# Altium footprint library индикаторные эл-ты.PcbLib: 12 footprints
Each footprint in its own frame and in the unit in brackets; x right, y up, seen from the top. Pads: shape width x height; smd on the part's side, far side on the other; paste and mask are expansions set on the pad; w line width, h text height; cw(c..) or ccw(c..) is an arc to the next point about the centre after c.
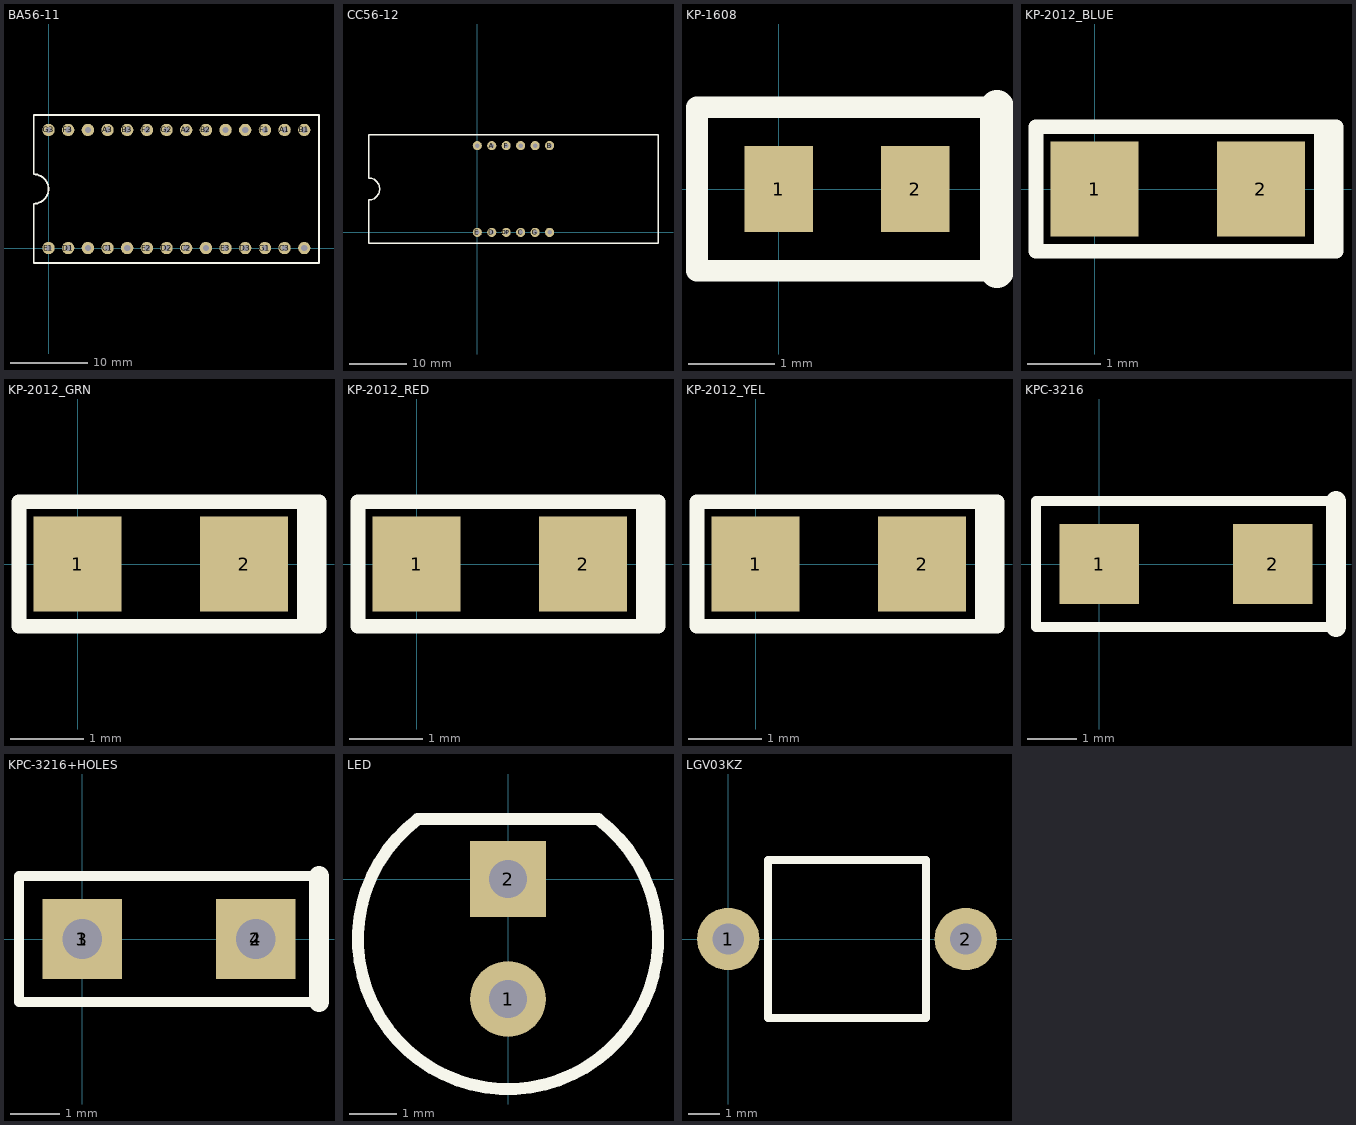
[diagram p0: the footprints below, top view; thin cyan lines are the x and y axes]

## BA56-11 [mm]
pads (28):
  round 1.6 hole 0.8: A1(30.48,15.24) A2(17.78,15.24) A3(7.62,15.24) B1(33.02,15.24) B2(20.32,15.24) B3(10.16,15.24) C1(7.62,0) C2(17.78,0) C3(30.48,0) D1(2.54,0) D2(15.24,0) D3(25.4,0) DP1(10.16,0) DP2(20.32,0) DP3(33.02,0) E1(0,0) E2(12.7,0) E3(22.86,0) F1(27.94,15.24) F2(12.7,15.24) F3(2.54,15.24) G1(27.94,0) G2(15.24,15.24) G3(0,15.24) OA1(5.08,0) OA1.(5.08,15.24) OA2(22.86,15.24) OA3(25.4,15.24)
Top Overlay:
  lines w0.254: -1.905,-1.905 -1.905,5.715 ccw(c-1.905,7.62) -1.905,9.525 -1.905,17.145 34.925,17.145 34.925,-1.905 -1.905,-1.905

## CC56-12 [mm]
pads (12):
  round 1.6 hole 0.8: A(2.54,15.24) B(12.7,15.24) C(7.62,0) D(2.54,0) DP(5.08,0) E(0,0) F(5.08,15.24) G(10.16,0) OK1(0,15.24) OK2(7.62,15.24) OK3(10.16,15.24) OK4(12.7,0)
Top Overlay:
  lines w0.254: -19.05,-1.905 31.75,-1.905 31.75,17.145 -19.05,17.145 -19.05,9.525 cw(c-19.05,7.62) -19.05,5.715 -19.05,-1.905

## KP-1608 [mm]
pads (2):
  rect 0.8x1 smd: 1(0,0) 2(1.587,0)
Top Overlay:
  lines w0.254: 2.54,-0.953 -0.953,-0.953 -0.953,0.953 2.54,0.953
  lines w0.4: 2.54,-0.953 2.54,0.953

## KP-2012_BLUE [mm] "Светодиод 0805 Синий"
pads (2):
  rect 1.2x1.3 smd mask+0.025: 1(0,0) 2(2.275,0)
Top Overlay:
  lines w0.2: 3.1,-0.85 3.1,0.85 ; -0.8,-0.85 3.3,-0.85 3.3,0.85 -0.8,0.85 -0.8,-0.85
3D body "everlight-17-21-0805LED-BLUE.SLDPRT": height 1.1, standoff -0.01, extent 0.15,-0.625 2.15,0.625

## KP-2012_GRN [mm] "Светодиод 0805 Зелёный"
pads (2):
  rect 1.2x1.3 smd mask+0.025: 1(0,0) 2(2.275,0)
Top Overlay:
  lines w0.2: 3.1,-0.85 3.1,0.85 ; -0.8,-0.85 3.3,-0.85 3.3,0.85 -0.8,0.85 -0.8,-0.85
3D body "everlight-17-21-0805LED-GREEN.SLDPRT": height 1.1, standoff -0.01, extent 0.15,-0.625 2.15,0.625

## KP-2012_RED [mm] "Светодиод 0805 Красный"
pads (2):
  rect 1.2x1.3 smd mask+0.025: 1(0,0) 2(2.275,0)
Top Overlay:
  lines w0.2: 3.1,-0.85 3.1,0.85 ; -0.8,-0.85 3.3,-0.85 3.3,0.85 -0.8,0.85 -0.8,-0.85
3D body "everlight-17-21-0805LED-red.SLDPRT": height 1.1, standoff -0.01, extent 0.15,-0.625 2.15,0.625

## KP-2012_YEL [mm] "Светодиод 0805 Жёлтый"
pads (2):
  rect 1.2x1.3 smd mask+0.025: 1(0,0) 2(2.275,0)
Top Overlay:
  lines w0.2: 3.1,-0.85 3.1,0.85 ; -0.8,-0.85 3.3,-0.85 3.3,0.85 -0.8,0.85 -0.8,-0.85
3D body "everlight-17-21-0805LED-YELLOW.SLDPRT": height 1.1, standoff -0.01, extent 0.15,-0.625 2.15,0.625

## KPC-3216 [mm]
pads (2):
  rect 1.6x1.6 smd: 1(0,0) 2(3.492,0)
Top Overlay:
  lines w0.2: 4.763,-1.27 -1.27,-1.27 -1.27,1.27 4.763,1.27
  lines w0.4: 4.763,-1.27 4.763,1.27

## KPC-3216+HOLES [mm]
pads (4):
  rect 1.6x1.6 smd: 1(0,0) 2(3.492,0)
  round 1.6 hole 0.8: 3(0,0) 4(3.492,0)
Top Overlay:
  lines w0.2: 4.763,-1.27 -1.27,-1.27 -1.27,1.27 4.763,1.27
  lines w0.4: 4.763,-1.27 4.763,1.27

## LED [mm]
pads (2):
  round 1.6 hole 0.8: 1(0,-2.54)
  rect 1.6x1.6 hole 0.8: 2(0,0)
Top Overlay:
  lines w0.254: -1.911,1.266 ccw(c0,-1.27) 1.911,1.266 ; -1.905,1.27 1.905,1.27

## LGV03KZ [mm]
pads (2):
  round 2 hole 1: 1(0,0) 2(7.62,0)
Top Overlay:
  lines w0.254: 1.27,-2.54 6.35,-2.54 6.35,2.54 1.27,2.54 1.27,-2.54

## PCBComponent_1 [mm]